# Altium schematic symbol library Oscillators.SchLib: 10 symbols
Pins are listed as number, name and electrical type; pins without a type are passive.

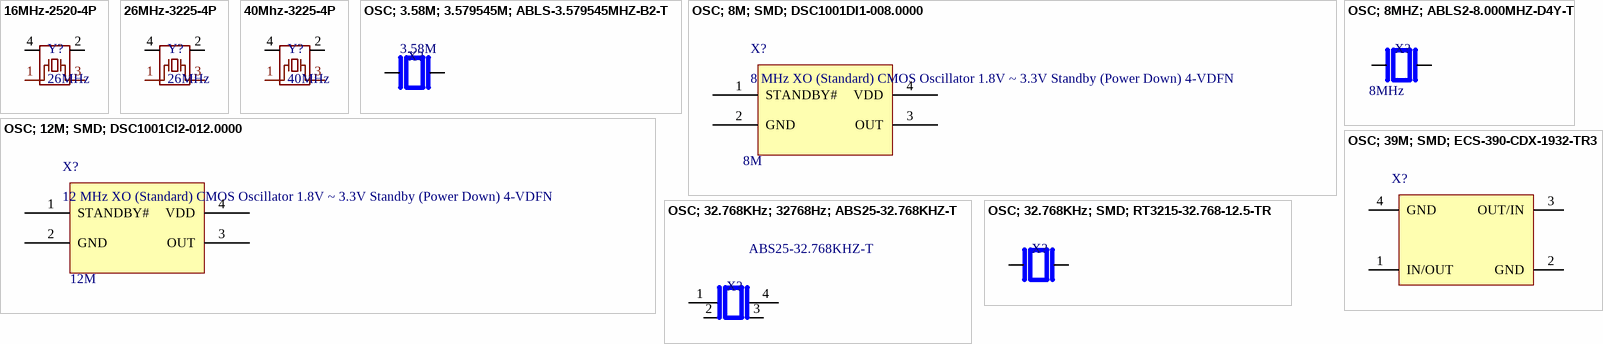
[diagram p0: symbols 16MHz-2520-4P to OSC; 39M; SMD; ECS-390-CDX-1932-TR3]

## 16MHz-2520-4P
designator Y?, comment 26MHz
16MHz Surface Mount Crystal 9pF ±10ppm ±20ppm SMD2520-4P Crystals ROHS; Manufacturer: YXC Crystal Oscillators; Manufacture Part Number: X252016MLB4SI; Packaging: Cut Tape (CT); Link: https://www.lcsc.com/product-detail/Crystals_YXC-Crystal-Oscillators-X252016MLB4SI_C784073.html?s_z=n_X252016MLB4SI; Package: SMD2520-4P
footprint SMD2520-4P
pins: 1, 2, 3, 4

## 26MHz-3225-4P
designator Y?, comment 26MHz
26MHz Surface Mount Crystal 15pF ±10ppm SMD3225-4P Crystals ROHS; Manufacturer: JGHC; Manufacture Part Number: S3226000151040; Packaging: Cut Tape (CT); Link: https://www.lcsc.com/product-detail/Crystals_JGHC-S3226000151040_C479205.html?s_z=n_C479205; Package: SMD3225-4P
footprint SMD3225-4P
pins: 1, 2, 3, 4

## 40Mhz-3225-4P
designator Y?, comment 40MHz
40MHz Surface Mount Crystal 9pF ±10ppm ±10ppm SMD3225-4P Crystals ROHS; Manufacturer: TOGNJING; Manufacture Part Number: XTM32040000FT00351001; Packaging: Cut Tape (CT); Link: https://www.lcsc.com/product-detail/Crystals_TOGNJING-XTM32040000FT00351001_C37635390.html?s_z=n_40mhz; Package: SMD3225-4P
footprint SMD3225-4P
pins: 1, 2, 3, 4

## OSC; 3.58M; 3.579545M; ABLS-3.579545MHZ-B2-T
designator X?, comment value 3.58M  (hidden comment: 3.579545 MHz ±20ppm Crystal 18pF 180 Ohms HC-49/US)
Crystal 3.579545MHz ±20ppm (Tol) ±50ppm (Stability) 18pF FUND 180Ohm 2-Pin HC-49/US SMD T/R; Manufacturer: Abracon; Manufacturer Part Number: ABLS-3.579545MHZ-B2-T; Designer: TVBac; Supplier: Digikey; Supplier Part Number: 535-9081-1-ND; RoHS: Yes; Category: Crystals; Stock: 16401; Pricing: 1=0.27, 10=0.231, 50=0.208, 100=0.1989, 500=0.17934, 1000=0.17152, 2000=0.16407, 3000=0.15987, 5000=0.15474, 7000=0.15146, 10000=0.14806, 25000=0.13969, 50000=0.13369 (USD); ComponentLink1URL: https://datasheet.ciiva.com/15116/getdatasheetpartid-719903-15116782.pdf?src-supplier=Verical; ComponentLink1Description: https://datasheet.ciiva.com/15116/getdatasheetpartid-719903-15116782.pdf?src-supplier=Verical; ComponentLink2URL: https://datasheet.ciiva.com/16410/abls-16410837.pdf?src-supplier=Future+Electronics; ComponentLink2Description: https://datasheet.ciiva.com/16410/abls-16410837.pdf?src-supplier=Future+Electronics; ComponentLink3URL: https://datasheet.ciiva.com/854/abls-854273.pdf?src-supplier=Digikey; ComponentLink3Description: https://datasheet.ciiva.com/854/abls-854273.pdf?src-supplier=Digikey; ComponentLink4URL: https://datasheet.ciiva.com/854/abls-854274.pdf?src-supplier=Digikey; ComponentLink4Description: https://datasheet.ciiva.com/854/abls-854274.pdf?src-supplier=Digikey; ComponentLink5URL: https://datasheet.ciiva.com/854/abls-854275.pdf?src-supplier=Digikey; ComponentLink5Description: https://datasheet.ciiva.com/854/abls-854275.pdf?src-supplier=Digikey; ComponentLink6URL: https://datasheet.ciiva.com/4945/abls-44621-4945006.pdf?src-supplier=Mouser; ComponentLink6Description: https://datasheet.ciiva.com/4945/abls-44621-4945006.pdf?src-supplier=Mouser; ComponentLink7URL: https://datasheet.ciiva.com/7998/abls-7998431.pdf?src-supplier=Element14; ComponentLink7Description: https://datasheet.ciiva.com/7998/abls-7998431.pdf?src-supplier=Element14; ComponentLink8Description: Link Digikey; ComponentLink8URL: https://www.digikey.com/en/products/detail/abracon-llc/ABLS-3-579545MHZ-B2-T/675276
footprint SMD-HC-49/US-ALLC
pins: 1, 2

## OSC; 8M; SMD; DSC1001DI1-008.0000
designator X?, comment 8 MHz XO (Standard) CMOS Oscillator 1.8V ~ 3.3V Standby (Power Down) 4-VDFN  value 8M
Mems Oscillator, Low Power, -40C-85C, 50Ppm4 Vdfn 2.0X2.5Mm Tube; Manufacturer: Microchip; Manufacturer Part Number: DSC1001DI1-008.0000; Designer: TVBac; Supplier: Digikey; Supplier Part Number: DSC1001DI1-008.0000-ND; RoHS: Yes; Category: Oscillators; Stock: 322; Pricing: 1=1.15 (USD); RoHS Compliant: Yes; ComponentLink1URL: http://www.microchip.com/mymicrochip/filehandler.aspx?ddocname=en576698&src-supplier=Digikey; ComponentLink1Description: http://www.microchip.com/mymicrochip/filehandler.aspx?ddocname=en576698&src-supplier=Digikey; ComponentLink2URL: https://datasheet.octopart.com/DSC1001DI1-008.0000-Microchip-datasheet-175858442.pdf?src-supplier=microchipDIRECT; ComponentLink2Description: https://datasheet.octopart.com/DSC1001DI1-008.0000-Microchip-datasheet-175858442.pdf?src-supplier=microchipDIRECT; ComponentLink3Description: Link Digikey; ComponentLink3URL: https://www.digikey.com/en/products/detail/microchip-technology/DSC1001DI1-008-0000/7732706
footprint SMD-VDFN-4-HxLxW-0.9x3.2x2.5
pins: 1 STANDBY#, 2 GND, 3 OUT, 4 VDD

## OSC; 8MHZ; ABLS2-8.000MHZ-D4Y-T
designator X?, comment value 8MHz  (hidden comment: 8 MHz ±30ppm Crystal 18pF 80 Ohms HC-49/US)
Crystal 8MHz ±30ppm (Tol) ±30ppm (Stability) 18pF FUND 80Ohm 2-Pin HC-49/US SMD T/R; Manufacturer: Abracon; Manufacturer Part Number: ABLS2-8.000MHZ-D4Y-T; ESR (Equivalent Series Resistance): 80R; Supplier: Mouser; Supplier Part Number: 815-ABLS2-8-D4Y-T; RoHS: Yes; Category: Crystals; Stock: 17012; Pricing: 1=0.38, 10=0.323, 50=0.305, 100=0.283, 500=0.268, 1000=0.175, 2000=0.167, 10000=0.167 (USD); Mounting Technology: Surface Mount; Pins: 2; Min Operating Temperature: -40°C; Max Operating Temperature: 85°C; Frequency: 8MHz; Frequency Tolerance: 30ppm; Load Capacitance: 18pF; Package Quantity: 1000; Tolerance: 30ppm; Packaging: Tape and Reel; Frequency Stability: 30ppm; Termination: SMD/SMT; ESR: 80R; Series: ABLS2; Operating Frequency: 8 MHz; Length: 11.4mm; Width: 0.185inch; Height: 0.13inch; Depth: 4.7mm; Lead Free: Lead Free; RoHS Compliant: Yes; Reach SVHC Compliant: Unknown; ComponentLink1URL: https://datasheet.ciiva.com/15116/getdatasheetpartid-719893-15116778.pdf?src-supplier=Verical; ComponentLink1Description: https://datasheet.ciiva.com/15116/getdatasheetpartid-719893-15116778.pdf?src-supplier=Verical; ComponentLink2URL: https://datasheet.ciiva.com/854/abls2-854379.pdf?src-supplier=Digikey; ComponentLink2Description: https://datasheet.ciiva.com/854/abls2-854379.pdf?src-supplier=Digikey; ComponentLink3URL: https://datasheet.ciiva.com/854/abls2-854378.pdf?src-supplier=Digikey; ComponentLink3Description: https://datasheet.ciiva.com/854/abls2-854378.pdf?src-supplier=Digikey; ComponentLink4URL: https://datasheet.ciiva.com/854/abls2-854380.pdf?src-supplier=Digikey; ComponentLink4Description: https://datasheet.ciiva.com/854/abls2-854380.pdf?src-supplier=Digikey; ComponentLink5URL: https://datasheet.ciiva.com/3174/abls2-3174136.pdf?src-supplier=Avnet; ComponentLink5Description: https://datasheet.ciiva.com/3174/abls2-3174136.pdf?src-supplier=Avnet; ComponentLink6URL: https://datasheet.ciiva.com/16292/abls2-16292557.pdf?src-supplier=Future+Electronics; ComponentLink6Description: https://datasheet.ciiva.com/16292/abls2-16292557.pdf?src-supplier=Future+Electronics
footprint SMD-HC-49/US-ALLC
pins: 1, 2

## OSC; 12M; SMD; DSC1001CI2-012.0000
designator X?, comment 12 MHz XO (Standard) CMOS Oscillator 1.8V ~ 3.3V Standby (Power Down) 4-VDFN  value 12M
MEMS Oscillator, Low Power, -40C-85C, 25ppm 4 VDFN 3.2x2.5x0.9mm TUBE RoHS Compliant: Yes; Manufacturer: Microchip; Manufacturer Part Number: DSC1001CI2-012.0000; Frequency: 12MHz; Max Supply Current: 6.3mA; Load Capacitance: 15pF; Max Duty Cycle: 55%; Max Supply Voltage: 3.6V; Min Supply Voltage: 1.7V; Designer: TVBac; Supplier: Digikey; Supplier Part Number: 576-4609-ND; RoHS: Yes; Category: Oscillators; Stock: 324; Pricing: 1=1.23 (USD); Mounting Technology: Surface Mount; Case/Package: SMD/SMT; Min Operating Temperature: -40°C; Max Operating Temperature: 85°C; Packaging: Rail/Tube; Frequency Stability: 25ppm; Series: DSC1001; Operating Supply Voltage: 3.3V; Termination: Solder; Package Quantity: 110; Ratings: AEC-Q100; Lead Free: Lead Free; RoHS Compliant: Yes; ComponentLink1URL: http://www.mouser.com/ds/2/268/DSC1001_Datasheet-775857.pdf?src-supplier=Mouser; ComponentLink1Description: http://www.mouser.com/ds/2/268/DSC1001_Datasheet-775857.pdf?src-supplier=Mouser; ComponentLink2URL: http://www.microchip.com/mymicrochip/filehandler.aspx?ddocname=en576698&src-supplier=Digikey; ComponentLink2Description: http://www.microchip.com/mymicrochip/filehandler.aspx?ddocname=en576698&src-supplier=Digikey; ComponentLink3URL: https://datasheet.octopart.com/DSC1001CI2-012.0000-Microchip-datasheet-175858442.pdf?src-supplier=microchipDIRECT; ComponentLink3Description: https://datasheet.octopart.com/DSC1001CI2-012.0000-Microchip-datasheet-175858442.pdf?src-supplier=microchipDIRECT; ComponentLink4URL: https://datasheet.octopart.com/DSC1001CI2-012.0000-Microchip-datasheet-175858442.pdf?src-supplier=Master+Electronics; ComponentLink4Description: https://datasheet.octopart.com/DSC1001CI2-012.0000-Microchip-datasheet-175858442.pdf?src-supplier=Master+Electronics; ComponentLink5Description: Link Digikey; ComponentLink5URL: https://www.digikey.com/en/products/detail/microchip-technology/DSC1001CI2-012-0000/4835401
footprint SMD-VDFN-4-HxLxW-0.9x3.2x2.5
pins: 1 STANDBY#, 2 GND, 3 OUT, 4 VDD

## OSC; 32.768KHz; 32768Hz; ABS25-32.768KHZ-T
designator X?, comment Manufacturer Part Number: ABS25-32.768KHZ-T  (hidden comment: 32.768 kHz ±20ppm Crystal 12.5pF 50 kOhms 4-SOJ, 5.50mm pitch)
Crystal, Plastic Molded 32.768Khz, 12.5F, 20Ppm-40+85C, 8 X 4 X 2.5 Rohs Compliant: Yes; Manufacturer: Abracon; ESR (Equivalent Series Resistance): 50kR; Supplier: Mouser; Supplier Part Number: 815-ABS25-32.768KHZT; RoHS: Yes; Category: Crystals; Stock: 95480; Pricing: 1=0.46, 10=0.403, 50=0.366, 100=0.351, 500=0.305, 1000=0.305, 3000=0.242, 10000=0.242 (USD); Mounting Technology: Surface Mount; Case/Package: SMD/SMT; Pins: 4; Min Operating Temperature: -40°C; Max Operating Temperature: 85°C; Frequency: 32.768kHz; Load Capacitance: 12.5pF; Packaging: Tape and Reel; Frequency Tolerance: 20ppm; Package Quantity: 1000; Tolerance: 20ppm; Termination: SMD/SMT; ESR: 50kR; Series: ABS25; Operating Frequency: 32.768 kHz; Length: 8mm; Width: 3.8mm; Height: 2.5mm; Depth: 3.8mm; Radiation Hardening: No; Reach SVHC Compliant: No; Lead Free: Lead Free; RoHS Compliant: Yes; ComponentLink1URL: https://datasheet.ciiva.com/7998/1700987-7998663.pdf?src-supplier=Element14; ComponentLink1Description: https://datasheet.ciiva.com/7998/1700987-7998663.pdf?src-supplier=Element14; ComponentLink2URL: https://datasheet.ciiva.com/854/abs25-854195.pdf?src-supplier=Digikey; ComponentLink2Description: https://datasheet.ciiva.com/854/abs25-854195.pdf?src-supplier=Digikey; ComponentLink3URL: https://datasheet.ciiva.com/16336/abs25-16336119.pdf?src-supplier=Future+Electronics; ComponentLink3Description: https://datasheet.ciiva.com/16336/abs25-16336119.pdf?src-supplier=Future+Electronics
footprint SMD-SOJ-4-ALLC
pins: 1, 2, 3, 4

## OSC; 32.768KHz; SMD; RT3215-32.768-12.5-TR
designator X?, comment 32.768 kHz ±20ppm Crystal 12.5pF 70 kOhms 2-SMD, No Lead  (value not drawn)
Crystal 0.032768MHz ±20ppm (Tol) 12.5pF Flexural 70000Ohm 2-Pin SMD T/R; Manufacturer: Raltron Electronics; Manufacturer Part Number: RT3215-32.768-12.5-TR; Value: 1.25E-11F; ESR (Equivalent Series Resistance): 70kR; Tolerance: 0.002%; Designer: TVBac; Supplier: Digikey; Supplier Part Number: 2151-RT3215-32.768-12.5-TRCT-ND; RoHS: Yes; Category: Crystals and Oscillators; Stock: 223136; Pricing: 1=0.42, 10=0.366, 50=0.3318, 100=0.3181, 500=0.28836, 1000=0.27643, 3000=0.25852, 6000=0.24783, 9000=0.24179, 15000=0.23438, 21000=0.22964, 30000=0.22471 (USD); Mounting Technology: Surface Mount; Case/Package: SMD/SMT; Min Operating Temperature: -40°C; Max Operating Temperature: 85°C; Frequency Tolerance: 20ppm; Load Capacitance: 12.5pF; Frequency: 32.768kHz; Series: RT3215; Operating Frequency: 32.768 kHz; Lead Free: Lead Free; RoHS Compliant: Yes; ComponentLink1URL: https://datasheet.ciiva.com/16388/crystal-rt-series-reva-16388376.pdf?src-supplier=Future+Electronics; ComponentLink1Description: https://datasheet.ciiva.com/16388/crystal-rt-series-reva-16388376.pdf?src-supplier=Future+Electronics; ComponentLink2Description: Link Digikey; ComponentLink2URL: https://www.digikey.com/en/products/detail/raltron-electronics/RT3215-32-768-12-5-TR/10273025
footprint SMD-OSI-3215-RE
pins: 1, 2

## OSC; 39M; SMD; ECS-390-CDX-1932-TR3
designator X?, comment 39 MHz ±8ppm Crystal 10pF 35 Ohms 4-SMD, No Lead  (value not drawn)
39 MHz 8ppm Crystal 10pF 35 Ohms 4-SMD, No Lead; Manufacturer: ECS International; Manufacturer Part Number: ECS-390-CDX-1932-TR3; Supplier: Digikey; Supplier Part Number: 50-ECS-390-CDX-1932-TR3CT-ND; RoHS: No; Category: Uncategorized; Stock: 6133; Pricing: 1=0.54, 10=0.468, 50=0.424, 100=0.4065, 500=0.36854, 1000=0.35328 (USD)
footprint SMD-OSI-LxW-20x16-ESCI
pins: 1 IN/OUT, 2 GND, 3 OUT/IN, 4 GND